# EAGLE library part FT232RL-HEADER (library con-misc)
FT232RL Breakout Board Header FT232RL product page <http://www.ftdichip.com/Products/ICs/FT232R.htm> FT232RL Datasheet <http://www.ftdichip.com/Support/Documents/DataSheets/ICs/DS_FT232R.pdf>
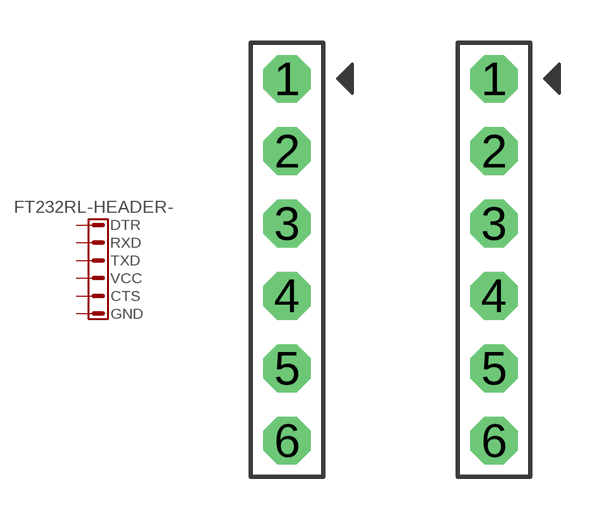
[diagram p0: symbol with the pads of FT232RL-BB-HEADER; footprints FT232RL-BB-HEADER, FT232RL-HEADER-UP]

Designator prefix FT232RL-HEADER-

## FT232RL-HEADERHORIZ  [FT232RL-BB-HEADER]
1  DTR  pas
2  RXD  pas
3  TXD  pas
4  VCC  pas
5  CTS  pas
6  GND  pas

## FT232RL-HEADERVERT  [FT232RL-HEADER-UP]
Pads as for FT232RL-BB-HEADER

## Footprint FT232RL-BB-HEADER (pad centres in mm)
PIN HEADER
drill 0.813 pad 1.676 octagon: 1 0,6.35; 2 0,3.81; 3 0,1.27; 4 0,-1.27; 5 0,-3.81; 6 0,-6.35

## Footprint FT232RL-HEADER-UP (pad centres in mm)
PIN HEADER
drill 0.813 pad 1.676 octagon: 1 0,6.35; 2 0,3.81; 3 0,1.27; 4 0,-1.27; 5 0,-3.81; 6 0,-6.35